# Altium footprint library Shunt_Res_Ohmite_LVK24R039FER.PcbLib: 1 footprints
Each footprint in its own frame and in the unit in brackets; x right, y up, seen from the top. Pads: shape width x height; smd on the part's side, far side on the other; paste and mask are expansions set on the pad; w line width, h text height; cw(c..) or ccw(c..) is an arc to the next point about the centre after c.
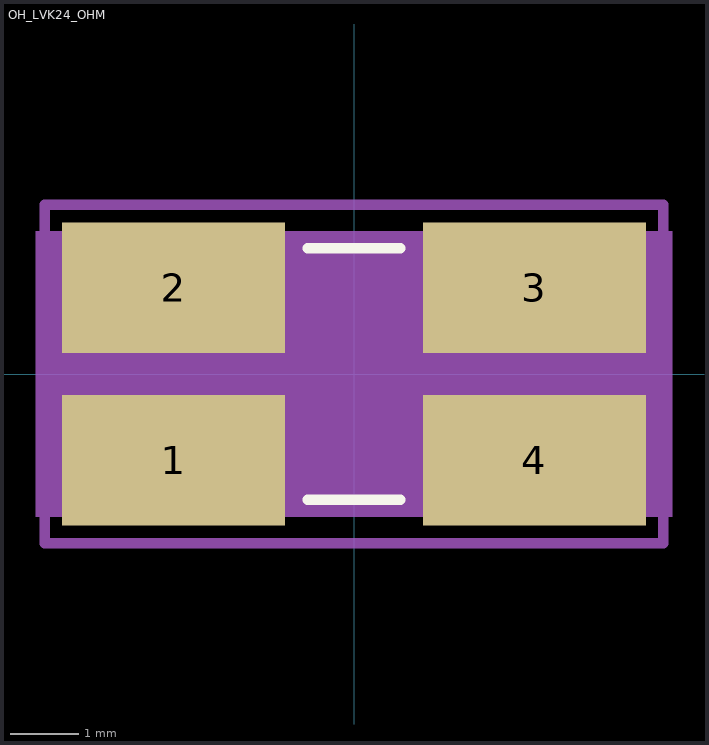
[diagram p0: the footprint, top view; thin cyan lines are the x and y axes]

## OH_LVK24_OHM [mil]
pads (4):
  rect 128x75 smd paste+0 mask+0: 1(-103.5,-49.5) 2(-103.5,49.5) 3(103.5,49.5) 4(103.5,-49.5)
Top Overlay:
  lines w6: -26.4,-72 26.4,-72 ; -26.4,72 26.4,72
Mechanical 5:
  region: 182.5,-82 -182.5,-82 -182.5,82 182.5,82
Mechanical 13:
  lines w1: -130,-67 130,-67 130,67 -130,67 -130,-67
Mechanical 15:
  lines w6: -177.5,-97 -177.5,97 177.5,97 177.5,-97 -177.5,-97
3D body "LVK24R047FER.stp": height 23.82, standoff 2.15, extent -121,-58 131,68